# EAGLE library part JST-XH-04 (library mastrogippo)
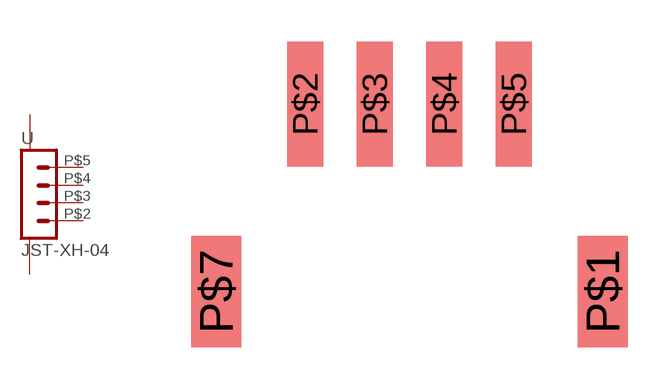
[diagram p23: symbol with the pads of JST-XH-H-4; footprint JST-XH-H-4]

Designator prefix -

## JST-XH-04  [JST-XH-H-4]
P$1  P$1
P$2  1  pas
P$3  2  pas
P$4  3  pas
P$5  4  pas
P$7  P$2

## Footprint JST-XH-H-4 (pad centres in mm)
smd 1.8 x 4: P$1 0.9,2; P$7 -13,2
smd 1.3 x 4.5: P$2 -9.8,8.75; P$3 -7.3,8.75; P$4 -4.8,8.75; P$5 -2.3,8.75